# Altium footprint library MCU_IF.PcbLib: 5 footprints
Each footprint in its own frame and in the unit in brackets; x right, y up, seen from the top. Pads: shape width x height; smd on the part's side, far side on the other; paste and mask are expansions set on the pad; w line width, h text height; cw(c..) or ccw(c..) is an arc to the next point about the centre after c.
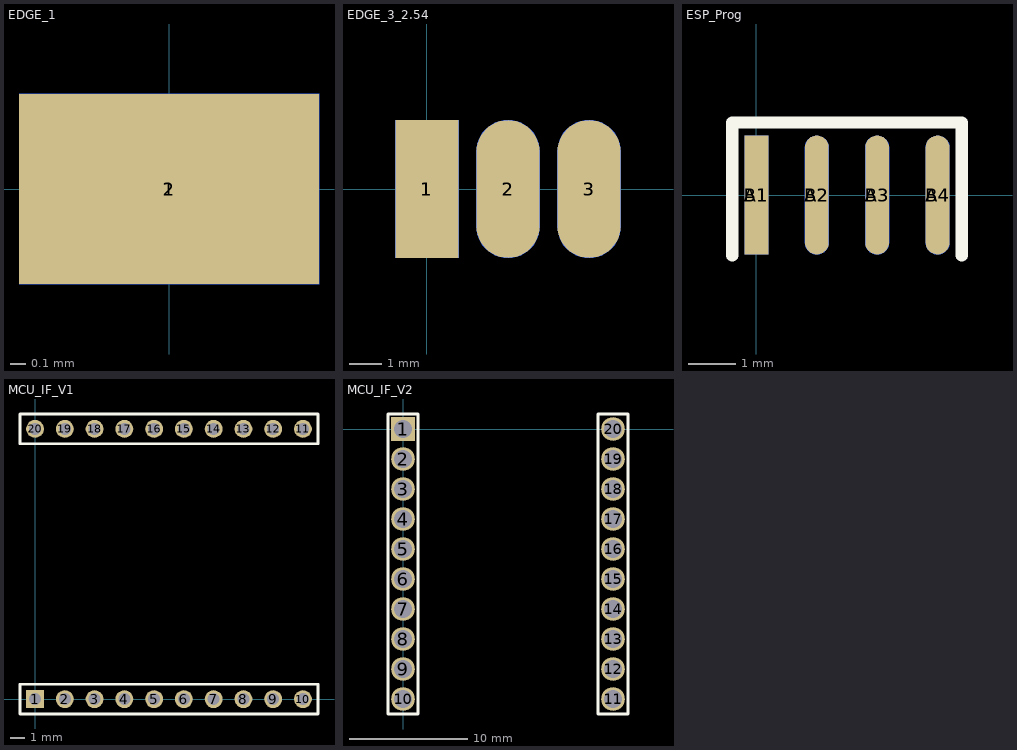
[diagram p0: the footprints below, top view; thin cyan lines are the x and y axes]

## EDGE_1 [mm]
pads (2):
  rect 2x1.27 smd: 1(0,0)
  rect 2x1.27 smd far side: 2(0,0)

## EDGE_3_2.54 [mil]
pads (6):
  rect 78x170 smd: 1(0,0)
  rect 78x170 smd far side: 1(0,0)
  oval 78x170 smd: 2(100,0) 3(200,0)
  oval 78x170 smd far side: 2(100,0) 3(200,0)

## ESP_Prog [mm]
pads (8):
  rect 0.5x2.5 smd: A1(0,0)
  oval 0.5x2.5 smd: A2(1.27,0) A3(2.54,0) A4(3.81,0)
  rect 0.5x2.5 smd far side: B1(0,0)
  oval 0.5x2.5 smd far side: B2(1.27,0) B3(2.54,0) B4(3.81,0)
Top Overlay:
  lines w0.254: -0.508,-1.27 -0.508,1.524 4.318,1.524 4.318,-1.27
Bottom Overlay:
  lines w0.254: -0.508,-1.27 -0.508,1.524 4.318,1.524 4.318,-1.27

## MCU_IF_V1 [mm]
pads (20):
  rect 1.2x1.2 hole 0.8: 1(0,0)
  round 1.2 hole 0.8: 2(2,0) 3(4,0) 4(6,0) 5(8,0) 6(10,0) 7(12,0) 8(14,0) 9(16,0) 10(18,0) 11(18,18.161) 12(16,18.161) 13(14,18.161) 14(12,18.161) 15(10,18.161) 16(8,18.161) 17(6,18.161) 18(4,18.161) 19(2,18.161) 20(0,18.161)
Top Overlay:
  lines w0.2: -1,-1 19,-1 19,1 -1,1 -1,-1 ; -1,17.161 19,17.161 19,19.161 -1,19.161 -1,17.161
3D body: height 6, standoff -2.8, extent -0.975,17.161 18.975,19.161
3D body: height 6, standoff -2.8, extent -0.975,-1 18.975,1

## MCU_IF_V2 [mm]
pads (20):
  rect 2x2 hole 1.5: 1(0,0)
  round 2 hole 1.5: 2(0,-2.54) 3(0,-5.08) 4(0,-7.62) 5(0,-10.16) 6(0,-12.7) 7(0,-15.24) 8(0,-17.78) 9(0,-20.32) 10(0,-22.86) 11(17.78,-22.86) 12(17.78,-20.32) 13(17.78,-17.78) 14(17.78,-15.24) 15(17.78,-12.7) 16(17.78,-10.16) 17(17.78,-7.62) 18(17.78,-5.08) 19(17.78,-2.54) 20(17.78,0)
Top Overlay:
  lines w0.254: -1.27,-24.13 -1.27,1.27 1.27,1.27 1.27,-24.13 -1.27,-24.13 ; 16.51,-24.13 19.05,-24.13 19.05,1.27 16.51,1.27 16.51,-24.13